# EAGLE library part MCP47FEB22A0-E/ST (library EW_IC-ADC-DAC)
Dual channel, 12-bit, nonvolatile, I2C DAC8 TSSOP 4.4mm
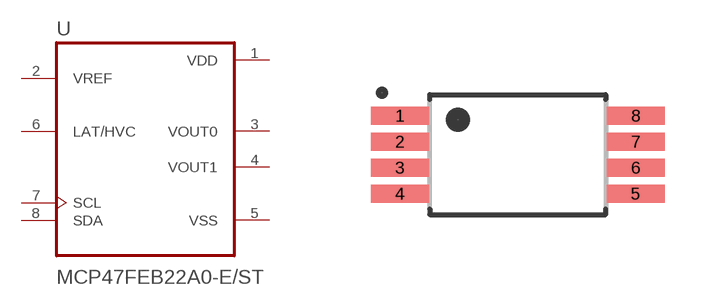
[diagram p2: symbol with the pads of SOP8P65_300X640X120L60X24N; footprint SOP8P65_300X640X120L60X24N]

Designator prefix U

## MCP47FEB22A0-E/ST (AVAILABILITY: Unavailable; DESCRIPTION: Dual channel, 12-bit, nonvolatile, I2C DAC8 TSSOP 4.4mm TUBE; MF: Microchip; MP: MCP47FEB22A0-E/ST; PACKAGE: TSSOP-8 Microchip; PRICE: None)  [SOP8P65_300X640X120L60X24N]
1  VDD  pwr
2  VREF  in
3  VOUT0  out
4  VOUT1  out
5  VSS  pwr
6  LAT/HVC
7  SCL  in
8  SDA

## Footprint SOP8P65_300X640X120L60X24N (pad centres in mm)
smd 1.45 x 0.45: 1 -2.95,0.975; 2 -2.95,0.325; 3 -2.95,-0.325; 4 -2.95,-0.975; 5 2.95,-0.975; 6 2.95,-0.325; 7 2.95,0.325; 8 2.95,0.975